# Altium schematic symbol library 1kW_BLDC_Controller.SCHLIB: 79 symbols
Pins are listed as number, name and electrical type; pins without a type are passive.

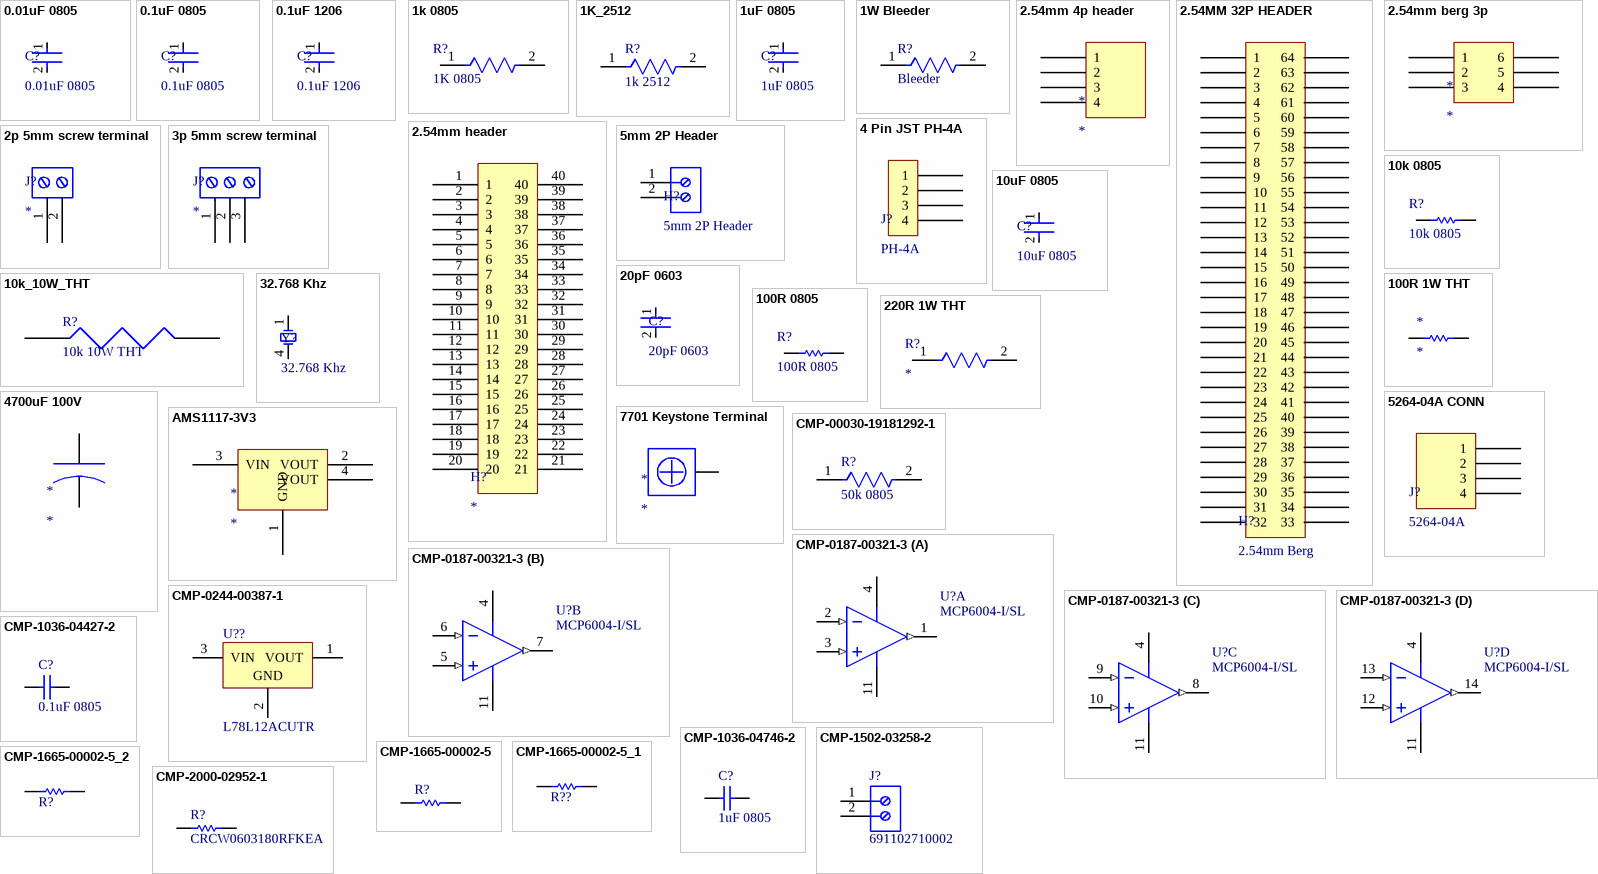
[diagram p0: symbols 0.01uF 0805 to CMP-2000-02952-1]

## 0.01uF 0805
designator C?
10nF/0.01uF 50V Capacitor ±10% Tolerance 0805B103K500CT – 0805 Package; Product URL: https://sharvielectronics.com/product/10nf-0-01uf-50v-capacitor-%c2%b110-tolerance-0805b103k500ct-0805-package/; Price per piece: 2.45; Datasheet: https://drive.google.com/file/d/18RHnvRuuuVekgJyOA4l8O3UUaSpuKbHR/view?usp=sharing
footprint R0805 (0805 Package)
footprint R0805 (0805 Package)
pins: 1, 2

## 0.1uF 0805
designator C?
0.1uF/100nF 100V Capacitor ±10% Tolerance CC0805KKX7R0BB104 – 0805 Package; Product URL: https://sharvielectronics.com/product/0-1uf-100nf-100v-capacitor-%c2%b110-tolerance-cc0805kkx7r0bb104-0805-package/; Price per piece: 4.76; Datasheet: https://drive.google.com/file/d/1wr2K_YaGqgMtACeU2pC6RWLSxDMrIPxr/view?usp=sharing
footprint R0805 (0805 Package)
pins: 1, 2

## 0.1uF 1206
designator C?
0.1uF/100nF 50V Capacitor ±10% Tolerance CC1206KRX7R9BB104 – 1206 Package; Price per piece: 2.22; Product URL: https://sharvielectronics.com/product/0-1uf-100nf-50v-capacitor-%c2%b110-tolerance-cc1206krx7r9bb104-1206-package/; Datasheet: https://sharvielectronics.com/wp-content/uploads/2020/09/Yageo-smd-Capacitor.pdf
footprint C2106 (2106 Package)
footprint C1206 (1206 Package)
pins: 1, 2

## 1k 0805
designator R?, comment 1K 0805
1K Ohm 1/8 Watt Resistor 1% Tolerance 0805S8F1001T5E – 0805 Package; Price per piece: 0.82; Product URL: https://sharvielectronics.com/product/1k-ohm-1-8-watt-resistor-1-tolerance-0805s8f1001t5e-0805-package/; Datasheet: https://drive.google.com/file/d/1rtx85iFJaMrDbsv7PAzG9bTFItPmAE38/view?usp=sharing
footprint R0805 (0805 Package)
pins: 1, 2

## 1K_2512
designator R?, comment 1k 2512
1K Ohm 1W Resistor 2512 Package; Manufacturer: Vishay Dale; Manufacturer Part Number: CRCW25121R00FKEG; Resistance: 1R; Tolerance: 1%; Voltage Rating: 500V; Temperature Coefficient: 100ppm/°C; Prie per piece: 3.25; Number of Terminations: 2; Packaging: Tape and Reel; Features: Automotive AEC-Q200; Military Standard: Not; Power Rating: 1W; Max Operating Temperature: 155°C; Number of Pins: 2; Radiation Hardening: No; Mount: Surface Mount; Height: 0.6mm; Max Power Dissipation: 1W; Case Code (Metric): 6432; Termination: SMD/SMT; REACH SVHC: No SVHC; Case/Package: 2512; Weight: 0.001429oz; Package Quantity: 2000; Composition: Thick Film; Voltage Rating (DC): 500V; Width: 0.124inch; Length: 6.3mm; Lead Free: Lead Free; Min Operating Temperature: -55°C; Contact Plating: Tin; Case Code (Imperial): 2512; Depth: 3.15mm; Price per piece: 3.25; ComponentLink1Description: Product URL; ComponentLink1URL: https://sharvielectronics.com/product/1k-ohm-1w-resistor-2512-package-pack-of-5/; ComponentLink2Description: Datasheet; ComponentLink2URL: *; Product URL: https://sharvielectronics.com/product/1k-ohm-1w-resistor-2512-package-pack-of-5/; Datasheet: *
footprint FP-CRCW2512-e3-IPC_C
footprint FP-CRCW2512-e3-IPC_B
footprint FP-CRCW2512-e3-MFG
footprint FP-CRCW2512-e3-IPC_A
footprint R2512 (2512 Package)
pins: 1, 2

## 1uF 0805
designator C?
1uF/1000nF 50V Capacitor ±10% Tolerance CC0805KKX7R9BB105 – 0805 Package; Price per piece: 2.16; Product URL: https://sharvielectronics.com/product/1uf-1000nf-50v-capacitor-%c2%b110-tolerance-cc0805kkx7r9bb105-0805-package/; Datasheet: https://drive.google.com/file/d/1wr2K_YaGqgMtACeU2pC6RWLSxDMrIPxr/view?usp=sharing
footprint R0805 (0805 Package)
pins: 1, 2

## 1W Bleeder
designator R?, comment Bleeder
footprint 1W Modified THT
pins: 1, 2

## 2.54mm 4p header
designator *
Price per piece: *; Product URL: *; Datasheet: *
footprint 2.54mm 4p header
pins: 1, 2, 3, 4

## 2.54MM 32P HEADER
designator H?, comment 2.54mm Berg
2×40 Pin Straight Female Berg Strip- 2.54mm Pitch; Price per piece: 13; Product URL: https://sharvielectronics.com/product/2x40-pin-straight-female-berg-strip-2-54mm-pitch/; Datasheet: https://sharvielectronics.com/wp-content/uploads/2020/02/Pin-Straight-Female-Berg-Strip-2.54mm-Pitch.pdf
footprint 2.5mm 32p header
pins: 1, 2, 3, 4, 5, 6, 7, 8, 9, 10, 11, 12, 13, 14, 15, 16, 17, 18, 19, 20, 21, 22, 23, 24, 25, 26, 27, 28, 29, 30, 31, 32, 33, 34, 35, 36, 37, 38, 39, 40, 41, 42, 43, 44, 45, 46, 47, 48, 49, 50, 51, 52, 53, 54, 55, 56, 57, 58, 59, 60, 61, 62, 63, 64

## 2.54mm berg 3p
designator *
Price per piece: 12.25; Product URL: https://sharvielectronics.com/product/40x2-pin-male-berg-strip-break-away-header-right-angle-2-54mm-pitch/; Datasheet: https://www.mouser.com/catalog/additional/Amphenol_bwb_bergstik.pdf
footprint 2.54mm 3p header
pins: 1, 2, 3, 4, 5, 6

## 2.54mm header
designator H?
footprint 2.54mm 20p header
pins: 1, 2, 3, 4, 5, 6, 7, 8, 9, 10, 11, 12, 13, 14, 15, 16, 17, 18, 19, 20, 21, 22, 23, 24, 25, 26, 27, 28, 29, 30, 31, 32, 33, 34, 35, 36, 37, 38, 39, 40

## 2p 5mm screw terminal
designator J?
XY127- 2 Pin Screw Terminal- 5mm Pitch; Product URL: https://sharvielectronics.com/product/2-pin-screw-terminal-block-red-5mm-pitch/; Price per piece: 6.32; Datasheet: https://sharvielectronics.com/wp-content/uploads/2023/03/XY127.pdf
footprint TERMINAL_5MM_3P (5mm screw terminal)
footprint TERMINAL_5MM_2P (5mm screw terminal)
pins: 1, 2

## 3p 5mm screw terminal
designator J?
XY127- 3 Pin Screw Terminal- 5mm Pitch; Product URL: https://sharvielectronics.com/product/xy127-3-pin-screw-terminal-5mm-pitch/; Price per piece: 8.35; Datasheet: https://sharvielectronics.com/wp-content/uploads/2023/03/XY127.pdf
footprint TERMINAL_5MM_3P (5mm screw terminal)
pins: 1, 2, 3

## 4 Pin JST PH-4A
designator J?, comment PH-4A
4 Pin JST PH-4A Straight Male Connector – 2mm Pitch; Price per piece: 3.55; Product URL: https://sharvielectronics.com/product/4-pin-jst-ph-4a-straight-male-connector-2mm-pitch/; Datasheet: https://drive.google.com/file/d/1xtnH8dmm313gQd5L_EWqAXCnKwT4okMA/view?usp=sharing
footprint JST PH-4A
pins: 1, 2, 3, 4

## 5mm 2P Header
designator H?
2 Pin Screw Terminal Block RED – 5mm Pitch; Price per piece: 6.32; Product URL: https://sharvielectronics.com/product/2-pin-screw-terminal-block-red-5mm-pitch/; Datasheet: *
footprint TERMINAL_5MM_2P (5mm screw terminal)
pins: 1, 2

## 10k 0805
designator R?
10K Ohm 1/8 Watt Resistor 1% Tolerance RC0805FR-0710KL – 0805 Package; Price per piece: 0.82; Product URL: https://sharvielectronics.com/product/10k-ohm-1-8-watt-resistor-1-tolerance-rc0805fr-0710kl-0805-package/; Datasheet: https://drive.google.com/file/d/1pkLQT_RQ1i35oFQcGREpZr7Oy3Ppi-ZT/view?usp=sharing
footprint R0805 (0805 Package)
pins: 1, 2

## 10k_10W_THT
designator R?, comment 10k 10W THT
10K ohm 10W Fusible Cement Resistor; Price per piece: 20; Product URL: https://sharvielectronics.com/product/10k-ohm-10w-fusible-cement-resistor/; Datasheet: *
footprint R10W
pins: 1, 2

## 10uF 0805
designator C?
10uF/1000nF 50V Capacitor ±10% Tolerance CC0805KKX5R9BB106 – 0805 Package; Product URL: https://sharvielectronics.com/product/10uf-1000nf-50v-capacitor-%c2%b110-tolerance-cc0805kkx5r9bb106-0805-package/; Price per piece: 2.85; Datasheet: https://drive.google.com/file/d/1wr2K_YaGqgMtACeU2pC6RWLSxDMrIPxr/view?usp=sharing
footprint R0805 (0805 Package)
pins: 1, 2

## 20pF 0603
designator C?
20pF/0.02nF 50V Capacitor 5% Tolerance 0603N200J500CT – 0603 Package; Price per piece: 1.85; Product URL: https://sharvielectronics.com/product/20pf-0-02nf-50v-capacitor-5-tolerance-0603n200j500ct-0603-package/; Datasheet: https://drive.google.com/file/d/1bI-gbXJF8P1uj18nKMNUbX5Mw9ANXnPN/view?usp=sharing
footprint C0603 (0603 Capacitor Package)
pins: 1, 2

## 32.768 Khz
designator Y?
YSX306GA 32.768 Khz SMD Crystal; Price per piece: 28.69; Product URL: https://sharvielectronics.com/product/ysx306ga-32-768-khz-smd-crystal/; Datasheet: https://drive.google.com/file/d/15lCHrTLPlPWCqCXLaHcSvA8fcw05laDJ/view?usp=sharing
footprint XTAL
pins: 1, 2 NC hidden, 3 NC hidden, 4

## 100R 1W THT
designator *
Price per piece: 2.14; Product URL: https://sharvielectronics.com/product/100-ohm-1-watt-resistor-5-tolerance/
footprint 1W THT
pins: 1, 2

## 100R 0805
designator R?
100 ohm 1/4W Resistor 0805 Package; Price per piece: 0.82; Product URL: https://sharvielectronics.com/product/100-ohm-1-4w-resistor-0805-package/; Datasheet: *
footprint R0805 (0805 Package)
pins: 1, 2

## 220R 1W THT
designator R?
220 Ohm 1 Watt Resistor 5% Tolerance; Price per piece: 1.46; Product URL: https://sharvielectronics.com/product/220-ohm-1-watt-resistor-5-tolerance/; Datasheet: *
footprint R1WTHT (1Watt THT Resistor)
pins: 1, 2

## 4700uF 100V
designator *
footprint 4700uF 100V
pins: 1 + (power), 2 GND (power)

## 5264-04A CONN
designator J?, comment 5264-04A
5264-04A – 4Pin Wire to Board Electrical Straight Connector – 2.5mm Pitch; Price per piece: 3.6; Datasheet: https://drive.google.com/file/d/1t3jPdwR-D_EtvdfTJbBkOuHHBupxPokz/view; Product URL: https://sharvielectronics.com/product/5264-04a-4pin-wire-to-board-electrical-straight-connector-2-5mm-pitch/
pins: 1, 2, 3, 4

## 7701 Keystone Terminal
designator *
footprint 7701 Terminal
pins: 1

## AMS1117-3V3
designator *
Price per piece: 6.25; Product URL: https://sharvielectronics.com/product/ams1117-3-3v-voltage-regulator-ic-smd-sot-223-package/; Datasheet: https://sharvielectronics.com/wp-content/uploads/2020/09/AMS1117-3.3V_DS.pdf
footprint AMS1117-3V3
pins: 1 GND, 2 VOUT, 3 VIN, 4 VOUT

## CMP-00030-19181292-1
designator R?, comment 50k 0805
PLT0805Z5002AST5 Res Thin Film 0805 50K Ohm 0.05% 0.25W(1/4W) ±5ppm/C Pad SMD T/R; NexarPartId: 19181292; Manufacturer: Vishay Dale Thin Film; Temperature Coefficient: 5ppm/°C; Resistance: 50kΩ; Voltage Rating: 100V; Power Rating: 250mW; Width: 1.27mm; Case Code (Imperial): 0805; Case Code (Metric): 2012; Tolerance: 0.05%; Composition: Thin Film; Case/Package: 0805; Max Operating Temperature: 125°C; Schedule B: 8533210045, 8533210045; RoHS: Compliant; Length: 2.032mm; Height: 838.2µm; Min Operating Temperature: -55°C; Manufacturer Part Number: PLT0805Z5002AST5
footprint FP-PLT0805-MFG (Res Thin Film 0805 50K Ohm 0.05% 0.25W(1/4W) ±5ppm/C Pad SMD T/R)
footprint FP-PLT0805-IPC_A (Res Thin Film 0805 50K Ohm 0.05% 0.25W(1/4W) ±5ppm/C Pad SMD T/R)
footprint FP-PLT0805-IPC_B (Res Thin Film 0805 50K Ohm 0.05% 0.25W(1/4W) ±5ppm/C Pad SMD T/R)
footprint FP-PLT0805-IPC_C (Res Thin Film 0805 50K Ohm 0.05% 0.25W(1/4W) ±5ppm/C Pad SMD T/R)
pins: 1, 2

## CMP-0187-00321-3
designator U?, comment MCP6004-I/SL
MCP6004 1MHz Rail-to-Rail Operational Amplifier – SOIC-14 Package; Manufacturer: Microchip; Number of Channels: 4; Amplifier Type: GENERAL PURPOSE; Common Mode Rejection Ratio: 60dB; Voltage Gain: 112dB; Min Supply Voltage: 1.8V; Slew Rate-Nom: 0.6V/µs; Supply Current: 100uA; Input Offset Voltage-Max: 4.5mV; Power Supply Rejection Ratio (PSRR): 86dB; Output Current: 23mA; Operating Supply Voltage: 5.5V; Input Bias Current: 1pA; Max Supply Voltage: 6V; RoHS Compliant: Yes; Technology: CMOS; Radiation Hardening: No; Bandwidth: 1MHz; Number of Elements: 4; REACH SVHC: No SVHC; Number of Amplifiers: 4; Lead Free: Lead Free; Contact Plating: Tin; Max Operating Temperature: 85°C; Packaging: Rail/Tube; Number of Pins: 14; Case/Package: SOIC; Width: 3.9mm; Length: 8.65mm; Unity Gain Bandwidth Product: 1MHz; Gain Bandwidth Product: 1MHz; Input Offset Voltage (Vos): 4.5mV; Package Quantity: 57; Number of Circuits: 4; Min Operating Temperature: -40°C; Nominal Supply Current: 100uA; Height: 1.25mm; Slew Rate: 0.6V/µs; Mount: Surface Mount; Manufacturer Part Number: MCP6004-I/SL
footprint SOIC-SL14_M (SOIC, 14-Leads, Body 8.7x3.9mm, Pitch 1.27mm, IPC Low Density)
footprint SOIC-SL14_N (SOIC, 14-Leads, Body 8.7x3.9mm, Pitch 1.27mm, IPC Medium Density)
simulation model MCP6001
footprint SOIC-SL14_L (SOIC, 14-Leads, Body 8.7x3.9mm, Pitch 1.27mm, IPC High Density)
pins on every part: 4 VDD (power), 11 VSS (power)
part A pins: 1 VOUTA (out), 2 VINA- (in), 3 VINA+ (in)
part B pins: 5 VINB+ (in), 6 VINB- (in), 7 VOUTB (out)
part C pins: 8 VOUTC (out), 9 VINC- (in), 10 VINC+ (in)
part D pins: 12 VIND+ (in), 13 VIND- (in), 14 VOUTD (out)

## CMP-0244-00387-1
designator U??, comment L78L12ACUTR
Positive Voltage Regulator, 12V, 4-Pin SOT-89, Tape and Reel; Manufacturer: STMicroelectronics; DatasheetVersion: 1/02/2011; PackageDescription: 3-Pin SOT-89 Package 1.5 mm Pitch, 4.1 mm Lead Span; ComponentLink2Description: Datasheet; ComponentLink1Description: Manufacturer URL; PackageVersion: 2011; PackageReference: SOT-89; ComponentLink1URL: http://www.st.com; ComponentLink2URL: http://www.st.com/internet/com/TECHNICAL_RESOURCES/TECHNICAL_LITERATURE/DATASHEET/CD00000446.pdf; Manufacturer Part Number: L78L12ACUTR
footprint SOT-89_N (SOT89, 3-Leads, Body 4.5x2.4 mm, Pitch 1.5mm, Lead Span 4.1mm, IPC Medium Density)
footprint SOT-89_M (SOT89, 3-Leads, Body 4.5x2.4 mm, Pitch 1.5mm, Lead Span 4.1mm, IPC Low Density)
footprint SOT-89_L (SOT89, 3-Leads, Body 4.5x2.4 mm, Pitch 1.5mm, Lead Span 4.1mm, IPC High Density)
pins: 1 VOUT (power), 2 GND (power), 3 VIN (power)

## CMP-1036-04427-2
designator C?, comment 0.1uF 0805
Manufacturer: AVX Interconnect / Elco; Part Number: 08051C104JAT2A; Manufacturer: Kyocera AVX; Manufacturer: KEMET; Manufacturer Part Number: C0805C104J1RAC; Manufacturer Part Number: C0805C104J1RACTU; Manufacturer Part Number: 08051C104JAT2A
footprint CAPC2013X94X50ML20T25 (Chip Capacitor, 2-Leads, Body 2.01x1.25mm, IPC Low Density)
footprint CAPC2013X94X50NL20T25 (Chip Capacitor, 2-Leads, Body 2.01x1.25mm, IPC Medium Density)
footprint CAPC2013X94X50LL20T25 (Chip Capacitor, 2-Leads, Body 2.01x1.25mm, IPC High Density)
pins: 1, 2
1 alternate drawing of the same symbol

## CMP-1036-04746-2
designator C?, comment 1uF 0805
Manufacturer: Kemet; Part Number: C0805C105K4PACTU; Manufacturer: TDK; Manufacturer Part Number: C2012X5R1C105K/1.25; Manufacturer: Murata; Manufacturer Part Number: GRM21BR71C105KA01L; Manufacturer Part Number: C0805C105K4RAC; Manufacturer: Kyocera AVX; Manufacturer Part Number: 0805YD105KAT2A; Manufacturer Part Number: C0805C105K4PAC; Manufacturer: Vishay Vitramon; Manufacturer Part Number: VJ0805Y105KXJTW1BC; Manufacturer Part Number: C2012X5R1C105K/0.85; Manufacturer: Yageo; Manufacturer Part Number: CC0805KKX5R7BB105; Manufacturer: Vishay; Manufacturer Part Number: VJ0805Y105KXJRW1BC; Manufacturer Part Number: 0805YD105KAT4A; Manufacturer Part Number: C0805C105K4RACTM; Manufacturer Part Number: 0805YC105KAT2A; Manufacturer Part Number: C0805C105K4RACTU; Manufacturer Part Number: C2012X7R1C105K/0.85; Manufacturer Part Number: CC0805KKX7R7BB105; Manufacturer Part Number: C2012X7R1C105K/1.25; Manufacturer Part Number: 0805YC105KAT4A; Manufacturer: KEMET; Manufacturer Part Number: C0805C105K4PACTU
footprint CAPC2013X145X50LL20T25 (Chip Capacitor, 2-Leads, Body 2.00x1.25mm, IPC High Density)
footprint CAPC2013X145X50NL20T25 (Chip Capacitor, 2-Leads, Body 2.00x1.25mm, IPC Medium Density)
footprint CAPC2013X145X50ML20T25 (Chip Capacitor, 2-Leads, Body 2.00x1.25mm, IPC Low Density)
pins: 1, 2
1 alternate drawing of the same symbol

## CMP-1502-03258-2
designator J?, comment 691102710002
NexarPartId: 8917706; Manufacturer: Wurth Electronics; Number of Levels: 1; Number of Positions Per Level: 2; Current: 15A; Voltage: 300V; Pitch: 5.0038mm; Plating: Steel; Stripping Length: -6mm; Wire Gauge (Min): 14AWG; Wire Gauge (Max): 22AWG; Length: 7.5mm; Contact Material: Brass; Contact Plating: Tin; Packaging: Box; Number of Pins: 2; Voltage Rating: 300V; Termination: Screw; Number of Contacts: 2; Color: Blue; Current Rating: 15A; Mount: Through Hole; Max Operating Temperature: 105°C; Min Operating Temperature: -40°C; REACH SVHC: Unknown; Height: 13.4mm; Width: 11.2mm; Housing Material: Nylon; RoHS: Compliant; Wire/Cable Gauge: 22AWG; Lead Pitch: 5mm; Manufacturer Part Number: 691102710002
footprint 691102710002 (Conn Terminal Block 2 POS 5mm Solder ST Thru-Hole 15A Box)
pins: 1, 2

## CMP-1665-00002-5
designator R?, comment 0R 0805  (value not drawn)
Chip Resistor, 0 Ohm, +/- 1%, 0.125 W, -55 to 155 degC, 0805 (2012 Metric), RoHS, Tape and Reel; PartNumber: ERJ-6GEY0R00V; Manufacturer: Panasonic; Tolerance: 5%; Resistance: 0 Ohm; REACH SVHC: No SVHC; Min Operating Temperature: -55 degC; Case/Package: 0805; Packaging: Tape and Reel; Package Quantity: 5000; ComponentLink1Description: Manufacturer URL; PackageDescription: 2-Pin Surface Mount Device, Body 2 x 1.25 mm; Mounting Technology: Surface Mount; Max Operating Temperature: 155 degC; Width: 1.25 mm; RoHSCompliant: True; Height: 0.6 mm; ComponentLink1URL: http://www.panasonic.com/; ComponentLink2URL: http://industrial.panasonic.com/cdbs/www-data/pdf/RDA0000/AOA0000C84.pdf; Case Code (Imperial): 0805; DatasheetVersion: 03/2015; Length: 2 mm; Case Code (Metric): 2012; ComponentLink2Description: Datasheet; Radiation Hardening: No; Manufacturer Part Number: ERJ-6GEY0R00V
footprint RESC2013X70X40NL20T20 (Chip Resistor, 2-Leads, Body 2.00x1.25mm, IPC Medium Density)
footprint RESC2013X70X40LL20T20 (Chip Resistor, 2-Leads, Body 2.00x1.25mm, IPC High Density)
footprint RESC2013X70X40ML20T20 (Chip Resistor, 2-Leads, Body 2.00x1.25mm, IPC Low Density)
pins: 1, 2

## CMP-1665-00002-5_1
designator R??, comment 0R 0805  (value not drawn)
Chip Resistor, 0 Ohm, +/- 1%, 0.125 W, -55 to 155 degC, 0805 (2012 Metric), RoHS, Tape and Reel; PartNumber: ERJ-6GEY0R00V; Manufacturer: Panasonic; Tolerance: 5%; Resistance: 0 Ohm; REACH SVHC: No SVHC; Min Operating Temperature: -55 degC; Case/Package: 0805; Packaging: Tape and Reel; Package Quantity: 5000; ComponentLink1Description: Manufacturer URL; PackageDescription: 2-Pin Surface Mount Device, Body 2 x 1.25 mm; Mounting Technology: Surface Mount; Max Operating Temperature: 155 degC; Width: 1.25 mm; RoHSCompliant: True; Height: 0.6 mm; ComponentLink1URL: http://www.panasonic.com/; ComponentLink2URL: http://industrial.panasonic.com/cdbs/www-data/pdf/RDA0000/AOA0000C84.pdf; Case Code (Imperial): 0805; DatasheetVersion: 03/2015; Length: 2 mm; Case Code (Metric): 2012; ComponentLink2Description: Datasheet; Radiation Hardening: No; Manufacturer Part Number: ERJ-6GEY0R00V
footprint RESC2013X70X40NL20T20 (Chip Resistor, 2-Leads, Body 2.00x1.25mm, IPC Medium Density)
footprint RESC2013X70X40LL20T20 (Chip Resistor, 2-Leads, Body 2.00x1.25mm, IPC High Density)
footprint RESC2013X70X40ML20T20 (Chip Resistor, 2-Leads, Body 2.00x1.25mm, IPC Low Density)
pins: 1, 2

## CMP-1665-00002-5_2
designator R?, comment 0R 0805  (value not drawn)
Chip Resistor, 0 Ohm, +/- 1%, 0.125 W, -55 to 155 degC, 0805 (2012 Metric), RoHS, Tape and Reel; PartNumber: ERJ-6GEY0R00V; Manufacturer: Panasonic; Tolerance: 5%; Resistance: 0 Ohm; REACH SVHC: No SVHC; Min Operating Temperature: -55 degC; Case/Package: 0805; Packaging: Tape and Reel; Package Quantity: 5000; ComponentLink1Description: Manufacturer URL; PackageDescription: 2-Pin Surface Mount Device, Body 2 x 1.25 mm; Mounting Technology: Surface Mount; Max Operating Temperature: 155 degC; Width: 1.25 mm; RoHSCompliant: True; Height: 0.6 mm; ComponentLink1URL: http://www.panasonic.com/; ComponentLink2URL: http://industrial.panasonic.com/cdbs/www-data/pdf/RDA0000/AOA0000C84.pdf; Case Code (Imperial): 0805; DatasheetVersion: 03/2015; Length: 2 mm; Case Code (Metric): 2012; ComponentLink2Description: Datasheet; Radiation Hardening: No; Manufacturer Part Number: ERJ-6GEY0R00V
footprint RESC2013X70X40NL20T20 (Chip Resistor, 2-Leads, Body 2.00x1.25mm, IPC Medium Density)
footprint RESC2013X70X40LL20T20 (Chip Resistor, 2-Leads, Body 2.00x1.25mm, IPC High Density)
footprint RESC2013X70X40ML20T20 (Chip Resistor, 2-Leads, Body 2.00x1.25mm, IPC Low Density)
pins: 1, 2

## CMP-2000-02952-1
designator R?, comment CRCW0603180RFKEA
Manufacturer: Vishay Dale; Manufacturer: Vishay; Part Number: CRCW0603180RFKEA; Manufacturer Part Number: CRCW0603180RFKEA
footprint RESC1609X50X30ML10T20 (Chip Resistor, 2-Leads, Body 1.55x0.85mm, IPC Low Density)
footprint RESC1609X50X30LL10T20 (Chip Resistor, 2-Leads, Body 1.55x0.85mm, IPC High Density)
footprint RESC1609X50X30NL10T20 (Chip Resistor, 2-Leads, Body 1.55x0.85mm, IPC Medium Density)
pins: 1, 2
1 alternate drawing of the same symbol

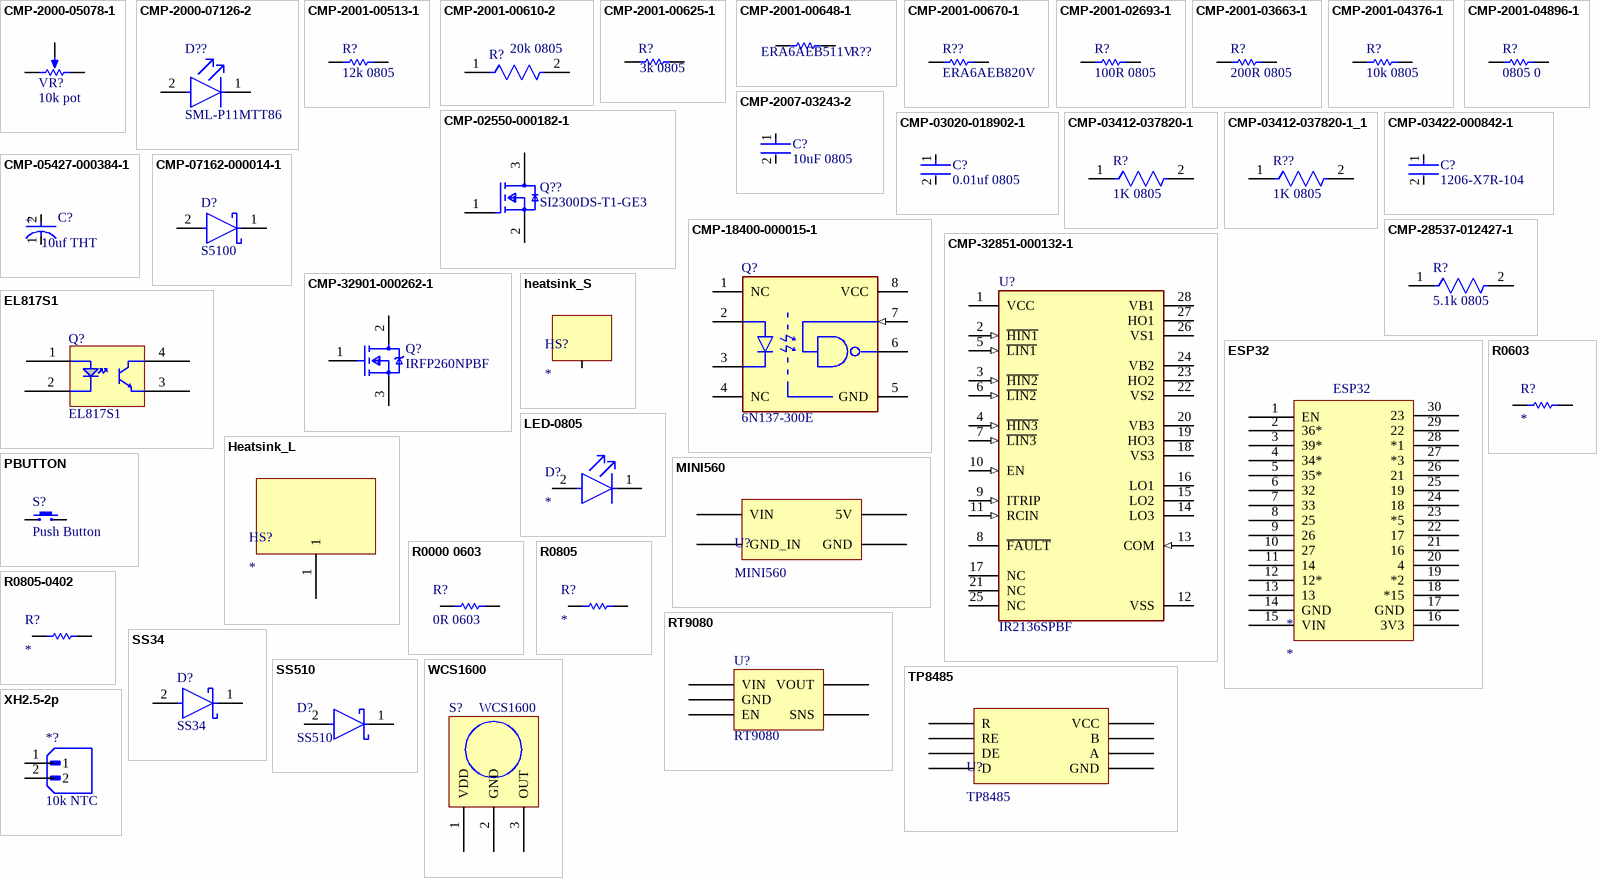
[diagram p1: symbols CMP-2000-05078-1 to XH2.5-2p]

## CMP-2000-05078-1
designator VR?, comment 10k pot
Square Trimming Potentiometer, 10 KOhm, 500 mW, -55 to 125 degC, 3-Pin THD, RoHS, Tube; Manufacturer Part Number: 3299W-1-103LF; Brand: Bourns; Power Rating: 500mW(1/2W); Unit Weight: 0.035000oz; Qualification: Commercial; Element Type: Cermet; Resistance: 10kOhms; Tolerance: 10%; Temperature Coefficient: 100PPM/C; Voltage Rating: 300V; Adjustment: TopCrossed; Product: Multiturn; Datasheet Version: Sep-04; Datasheet URL: https://datasheet.ciiva.com/19482/769696-19482212.pdf; RoHS: True; Tradename: Trimpot; Product Type: SquareTrimmingPotentiometer; Mounting: PanelMount; Packaging: Tube; Package Reference: 3299W; Operating Temperature Range: -55Cto+125C; Length: 10.03mm; Termination Style: Pin; Manufacturer: Bourns; Manufacturer URL: http://www.bourns.com/; Product Category: TrimmerResistors-ThroughHole; Width: 9.53mm; Taper: Linear; Package Description: 3-Pin Surface Mount Device, Body 9.53 x 6.1 mm, Pitch 2.54 mm; Type: Trimmers; Series: 3299
footprint BOUR-3299W-3_V (TH, 3-Leads, Body 9.53x6.4mm, Pitch 2.54mm)
pins: 1 CCW, 2 WIPER, 3 CW

## CMP-2000-07126-2
designator D??, comment SML-P11MTT86
LED YELLOW/GREEN CLEAR 1006 SMD; Manufacturer: Rohm; Forward Current: 20mA; Lens Color: Colorless; Power Rating: 54mW; Lens Style: Diffused; Wavelength: 569nm; Viewing Angle: 150°; Number of LEDs: 1; Test Current: 1mA; Luminous Intensity: 2.1mcd; Illumination Color: Green; Forward Voltage: 1.9V; REACH SVHC: No SVHC; Mount: Surface Mount; Series: PicoLED™; Case Code (Imperial): 0402; Min Operating Temperature: -40°C; Max Operating Temperature: 85°C; Number of Pins: 2; Package Quantity: 1; Height: 0.25mm; Lens Transparency: Clear; Case Code (Metric): 1005; Packaging: Tape and Reel; Width: 0.6mm; Radiation Hardening: No; Case/Package: 0402; Lead Free: Lead Free; Color: Green; RoHS Compliant: Yes; Length: 1mm; Dominant Wavelength: 569nm; Manufacturer Part Number: SML-P11MTT86
footprint FP-SML-P11MTT86-MFG
pins: 1 C, 2 A

## CMP-2001-00513-1
designator R?, comment 12k 0805
Manufacturer: Panasonic; Part Number: ERJ6ENF1202V; Manufacturer Part Number: ERJ-6ENF1202V
footprint RESC2013X70X40ML20T20 (Chip Resistor, 2-Leads, Body 2.00x1.25mm, IPC Low Density)
footprint RESC2013X70X40NL20T20 (Chip Resistor, 2-Leads, Body 2.00x1.25mm, IPC Medium Density)
footprint RESC2013X70X40LL20T20 (Chip Resistor, 2-Leads, Body 2.00x1.25mm, IPC High Density)
pins: 1, 2
1 alternate drawing of the same symbol

## CMP-2001-00610-2
designator R?, comment 20k 0805
RES 20K OHM 0.1% 1/8W 0805; Manufacturer: Panasonic; Manufacturer Part Number: ERA6AEB203V; Manufacturer Part Number: ERA-6AEB203V; Power Rating: 125mW; Voltage Rating (DC): 100V; Resistance: 20kR; Temperature Coefficient: 25ppm/°C; REACH SVHC: No SVHC; Features: Automotive AEC-Q200; Tolerance: 0.1%; Size Code: 0805; Max Power Dissipation: 125mW; Termination: SMD/SMT; Package Quantity: 1; Resistor Type: Thin Film; Number of Pins: 2; Width: 1.25mm; Technology: THIN FILM; Min Operating Temperature: -55°C; Length: 2mm; Mount: Surface Mount; Height: 0.5mm; Resistance Tolerance: 0.1%; Military Standard: Not; Case Code (Imperial): 0805; Contact Plating: Tin; Case Code (Metric): 2012; Number of Terminations: 2; RoHS Compliant: Yes; Voltage Rating: 100V; Lead Free: Lead Free; Depth: 1.25mm; Construction: Rectangular; Case/Package: 0805; Radiation Hardening: No; Series: ERA-6A; Max Operating Temperature: 155°C; Packaging: Tape and Reel
footprint FP-ERA6A-MFG
footprint FP-ERA6A-IPC_C
footprint FP-ERA6A-IPC_B
footprint FP-ERA6A-IPC_A
footprint R0805 (0805 Package)
pins: 1, 2

## CMP-2001-00625-1
designator R?, comment 3k 0805
Part Number: ERA6AEB302V; Manufacturer: Panasonic; Manufacturer Part Number: ERA-6AEB302V
footprint RESC2013X60X40LL20T25 (Chip Resistor, 2-Leads, Body 2.00x1.25mm, IPC High Density)
footprint RESC2013X60X40ML20T25 (Chip Resistor, 2-Leads, Body 2.00x1.25mm, IPC Low Density)
footprint RESC2013X60X40NL20T25 (Chip Resistor, 2-Leads, Body 2.00x1.25mm, IPC Medium Density)
pins: 1, 2
1 alternate drawing of the same symbol

## CMP-2001-00648-1
designator R??, comment ERA6AEB511V
Manufacturer: Panasonic; Manufacturer Part Number: ERA-6AEB511V; Part Number: ERA6AEB511V
footprint RESC2013X60X40LL20T25 (Chip Resistor, 2-Leads, Body 2.00x1.25mm, IPC High Density)
footprint RESC2013X60X40NL20T25 (Chip Resistor, 2-Leads, Body 2.00x1.25mm, IPC Medium Density)
footprint RESC2013X60X40ML20T25 (Chip Resistor, 2-Leads, Body 2.00x1.25mm, IPC Low Density)
pins: 1, 2
1 alternate drawing of the same symbol

## CMP-2001-00670-1
designator R??, comment ERA6AEB820V
Manufacturer: Panasonic; Manufacturer Part Number: ERA-6AEB820V; Part Number: ERA6AEB820V
footprint RESC2013X60X40NL20T25 (Chip Resistor, 2-Leads, Body 2.00x1.25mm, IPC Medium Density)
footprint RESC2013X60X40LL20T25 (Chip Resistor, 2-Leads, Body 2.00x1.25mm, IPC High Density)
footprint RESC2013X60X40ML20T25 (Chip Resistor, 2-Leads, Body 2.00x1.25mm, IPC Low Density)
pins: 1, 2
1 alternate drawing of the same symbol

## CMP-2001-02693-1
designator R?, comment 100R 0805
Manufacturer: Susumu; Part Number: RG2012P-101-B-T1; Manufacturer Part Number: RG2012P-101-B-T1
footprint RESC2013X50X40ML20T20 (Chip Resistor, 2-Leads, Body 2.00x1.25mm, IPC Low Density)
footprint RESC2013X50X40NL20T20 (Chip Resistor, 2-Leads, Body 2.00x1.25mm, IPC Medium Density)
footprint RESC2013X50X40LL20T20 (Chip Resistor, 2-Leads, Body 2.00x1.25mm, IPC High Density)
pins: 1, 2
1 alternate drawing of the same symbol

## CMP-2001-03663-1
designator R?, comment 200R 0805
Part Number: CRCW0805200RFKEA; Manufacturer: Vishay Dale; Manufacturer: Vishay; Manufacturer Part Number: CRCW0805200RFKEA
footprint RESC2013X50X30NL20T20 (Chip Resistor, 2-Leads, Body 2.00x1.25mm, IPC Medium Density)
footprint RESC2013X50X30LL20T20 (Chip Resistor, 2-Leads, Body 2.00x1.25mm, IPC High Density)
footprint RESC2013X50X30ML20T20 (Chip Resistor, 2-Leads, Body 2.00x1.25mm, IPC Low Density)
pins: 1, 2
1 alternate drawing of the same symbol

## CMP-2001-04376-1
designator R?, comment 10k 0805
Manufacturer: Panasonic; Part Number: ERJ-6ENF1002V; Manufacturer Part Number: ERJ-6ENF1002V
footprint RESC2013X70X40ML20T20 (Chip Resistor, 2-Leads, Body 2.00x1.25mm, IPC Low Density)
footprint RESC2013X70X40NL20T20 (Chip Resistor, 2-Leads, Body 2.00x1.25mm, IPC Medium Density)
footprint RESC2013X70X40LL20T20 (Chip Resistor, 2-Leads, Body 2.00x1.25mm, IPC High Density)
pins: 1, 2
1 alternate drawing of the same symbol

## CMP-2001-04896-1
designator R?, comment 0805 0
Manufacturer: Vishay Dale; Part Number: CRCW08050000Z0EA; Manufacturer: Vishay; Manufacturer Part Number: CRCW08050000Z0EA
footprint RESC2013X50X30LL20T20 (Chip Resistor, 2-Leads, Body 2.00x1.25mm, IPC High Density)
footprint RESC2013X50X30ML20T20 (Chip Resistor, 2-Leads, Body 2.00x1.25mm, IPC Low Density)
footprint RESC2013X50X30NL20T20 (Chip Resistor, 2-Leads, Body 2.00x1.25mm, IPC Medium Density)
pins: 1, 2
1 alternate drawing of the same symbol

## CMP-2007-03243-2
designator C?, comment 10uF 0805
CAP CER 10UF 10V X5R 0805; Manufacturer Part Number: C0805C106K8PACTU; Manufacturer: Kemet; 3DS Part Number: 220-00001; Tolerance: 10%; Temperature Coefficient: 15%; Material: Ceramic; Device Class L2: Capacitors; Device Class L1: Passive Components; ComponentLink2URL: https://content.kemet.com/datasheets/KEM_C1006_X5R_SMD.pdf; Height: 1.4mm; Lead Free: Yes; Digikey Description: CAP CER 10UF 10V X5R 0805; Octopart: https://octopart.com/c0805c106k8pactu-kemet-98697; Capacitance: 10uF; Value: 10uF; Temperature Range Low: -55°C; Temperature: -55°C to +85°C; Automotive: No; Mouser Description: CAP CER 10UF 10V X5R 0805; Ipc Land Pattern Name: CAPC200125X125; Temperature Range High: +85°C; Voltage: 10V; RoHS: TRUE; Device Class L3: Ceramic Capacitors; ComponentLink2Description: Datasheet; Voltage Rating: 10V; Package: C0805C-DG; Temperature Characteristic: X5R; Category: Cap; Manufacturer: KEMET
footprint FP-C0805C-DG-MFG
footprint FP-C0805C-DG-IPC_C
footprint FP-C0805C-DG-IPC_B
footprint FP-C0805C-DG-IPC_A
pins: 1, 2

## CMP-02550-000182-1
designator Q??, comment SI2300DS-T1-GE3
MOSFET N-CH 30V 3.6A SOT-23; Manufacturer: Vishay; Manufacturer: Vishay Siliconix; Threshold Vgs Max: 1.5V; Max Forward Diode Voltage: 1.2V; Max Junction Temp: +150°C; Reverse Recovery Time: 11ns; Depletion Mode: False; Standoff Height: 0.01mm; Gate To Source Voltage: 12V; Input Capacitace At Vds: 320pF @ 15V; Turn Off Delay Time: 15ns; Threshold Vgs Min: 0.6V; Transconductance: 13S; Gate Charge At Vgs: 6.5nC @ 10V; Power Dissipation: 1.1W; Drain To Source Resistance: 0.055Ω; Number Of N Channels: 1; Pulse Drain Current: 15A; Continuous Drain Current: 3.1A; Typ Forward Diode Voltage: 0.8V; Reverse Recovery Charge: 5nC; Rthja Max: 90°C/W; Turn On Delay Time: 5ns; Device Class L2: Transistors; Digikey Description: MOSFET N-CH 30V 3.6A SOT-23; Device Class L3: MOSFETs; ComponentLink2Description: Datasheet; Height: 1.12mm; Temperature Range Low: -55°C; Package: S-03946; Device Class L1: Discrete Semiconductors; RoHS: TRUE; ComponentLink2URL: http://www.vishay.com/docs/65701/si2300ds.pdf; Category: Trans; Drain To Source Breakdown Voltage: 30V; Automotive: No; Number Of Channels: 1; Mouser Description: MOSFET 30V 3.6A N-CH MOSFET; Temperature: -55°C to +150°C; Manufacturer Part Number: SI2300DS-T1-GE3; Octopart: https://octopart.com/si2300ds-t1-ge3-vishay-44451512; Drain To Source Voltage: 30V; Lead Free: Yes; Temperature Range High: +150°C; Ipc Land Pattern Name: SOT95P237X100-3
footprint FP-S-03946-MFG
footprint FP-S-03946-IPC_C
footprint FP-S-03946-IPC_B
footprint FP-S-03946-IPC_A
pins: 1 G, 2 S, 3 D

## CMP-03020-018902-1
designator C?, comment 0.01uf 0805
CAP CER 10000PF 100V X7R 0805; Manufacturer: KEMET; Manufacturer Part Number: C0805C103K1RACTU; Material: Ceramic; Capacitance: 10,000 pF; Value: 10,000 pF; Temperature Coefficient: 30ppm/°C; Tolerance: 0.1; Octopart: https://octopart.com/c0805c103k1ractu-kemet-97824; Ipc Land Pattern Name: CAPC200125X78; Temperature: -55°C to +125°C; Temperature Range High: +125°C; Temperature Range Low: -55°C; Category: Cap; Voltage Rating: 100 V; ComponentLink2Description: Datasheet; Device Class L3: Ceramic Capacitors; ComponentLink2URL: https://content.kemet.com/datasheets/KEM_C1003_C0G_SMD.pdf; Automotive: No; Temperature Characteristic: X7R; Digikey Description: CAP CER 10000PF 100V X7R 0805; Package: C0805C-DN; Height: 0.88mm; Device Class L2: Capacitors; Mouser Description: Cap Ceramic 0.01uF 100V X7R 10% SMD 0805 125°C Paper T/R; Device Class L1: Passive Components; Lead Free: Yes; RoHS: TRUE
footprint FP-C0805C-DN-MFG
footprint FP-C0805C-DN-IPC_C
footprint FP-C0805C-DN-IPC_B
footprint FP-C0805C-DN-IPC_A
pins: 1, 2

## CMP-03412-037820-1
designator R?, comment 1K 0805
RES SMD 1K OHM 5% 1/8W 0805; Manufacturer: Yageo; Manufacturer Part Number: RC0805JR-071KL; Voltage Rating: 150V; Resistance: 1kR; Max Power Dissipation: 125mW; Temperature Coefficient: 100ppm/°C; Size Code: 0805; Series: RC; Number of Terminations: 2; Tolerance: 5%; Features: Moisture Resistant; Termination: SMD/SMT; Min Operating Temperature: -55°C; Construction: Rectangular; Lead Free: Lead Free; Contact Plating: Tin; Radiation Hardening: No; Packaging: Tape and Reel; Length: 2mm; Resistor Type: Thick Film; Military Standard: Not; Case Code (Metric): 2012; Depth: 1.25mm; Case Code (Imperial): 0805; Power Rating: 125mW; Max Operating Temperature: 155°C; Resistance Tolerance: 5%; RoHS Compliant: Yes; Case/Package: 0805
footprint FP-RC0805-0_6-MFG
footprint FP-RC0805-0_6-IPC_C
footprint FP-RC0805-0_6-IPC_B
footprint FP-RC0805-0_6-IPC_A
pins: 1, 2

## CMP-03412-037820-1_1
designator R??, comment 1K 0805
RES SMD 1K OHM 5% 1/8W 0805; Manufacturer: Yageo; Manufacturer Part Number: RC0805JR-071KL; Voltage Rating: 150V; Resistance: 1kR; Max Power Dissipation: 125mW; Temperature Coefficient: 100ppm/°C; Size Code: 0805; Series: RC; Number of Terminations: 2; Tolerance: 5%; Features: Moisture Resistant; Termination: SMD/SMT; Min Operating Temperature: -55°C; Construction: Rectangular; Lead Free: Lead Free; Contact Plating: Tin; Radiation Hardening: No; Packaging: Tape and Reel; Length: 2mm; Resistor Type: Thick Film; Military Standard: Not; Case Code (Metric): 2012; Depth: 1.25mm; Case Code (Imperial): 0805; Power Rating: 125mW; Max Operating Temperature: 155°C; Resistance Tolerance: 5%; RoHS Compliant: Yes; Case/Package: 0805
footprint FP-RC0805-0_6-MFG
footprint FP-RC0805-0_6-IPC_C
footprint FP-RC0805-0_6-IPC_B
footprint FP-RC0805-0_6-IPC_A
pins: 1, 2

## CMP-03422-000842-1
designator C?, comment 1206-X7R-104
CAP CER 0.1UF 50V X7R 1206; Manufacturer: Yageo; Manufacturer Part Number: CC1206KRX7R9BB104; Automotive Grade: NA; Value: 100 nF; Tolerance: 0.1; Material: Ceramic; Temperature Coefficient: 15%; Temperature Characteristic: X7R; Device Class L1: Passive Components; Lead Free: Yes; Octopart: https://octopart.com/cc1206krx7r9bb104-yageo-39467816; Category: Cap; Temperature Range Low: -55°C; Device Class L3: Ceramic Capacitors; Voltage Rating: 50 V; Temperature Range High: +125°C; Device Class L2: Capacitors; RoHS: TRUE; Package: CC1206-1.25; Footprint Url: http://www.yageo.com/exep/pages/download/literatures/UPY-C_GEN_24.pdf; ComponentLink2Description: Datasheet; Temperature: -55°C to +125°C; Capacitance: 100 nF; Digikey Description: CAP CER 0.1UF 50V X7R 1206; Height: 1.45mm; Automotive: No; Mouser Description: Multilayer Ceramic Capacitors MLCC - SMD/SMT 100nF 50V X7R 10%; ComponentLink2URL: http://www.yageo.com/documents/recent/UPY-NP0X7R_HV_1KV-to-3KV_11.pdf
footprint FP-CC1206-1_25-MFG
footprint FP-CC1206-1_25-IPC_C
footprint FP-CC1206-1_25-IPC_B
footprint FP-CC1206-1_25-IPC_A
pins: 1, 2

## CMP-05427-000384-1
designator C?, comment 10uf THT
Aluminum Electrolytic Capacitors (Radial Lead Type) 10uF ±20% 350V; Manufacturer: Panasonic; Manufacturer Part Number: ECA-2VHG100; Lead/Base Style: Straight; Lead Diameter: 0.6mm; Ripple Current (AC): 82mA; Life (Hours): 2000Hour; Series: NHG; Packaging: Bulk; Case/Package: Radial; Contact Plating: Tin; Voltage Rating: 350V; Tolerance: 20%; Termination: Radial; Lead Pitch: 5mm; Max Operating Temperature: 105°C; REACH SVHC: No SVHC; Height - Seated (Max): 0.866inch; Radiation Hardening: No; Voltage Rating (DC): 350V; Diameter: 10mm; Length: 20mm; Mount: Through Hole; Package Quantity: 200; Min Operating Temperature: -25°C; Construction: RADIAL; Ripple Current: 82mA; Height: 20mm; Capacitance: 10uF; RoHS Compliant: Yes
footprint FP-RAD-TH-D_10_0_5-L_20_2-MFG
pins: 1 C, 2 A
text: +

## CMP-07162-000014-1
designator D?, comment S5100
Trench Schottky Rectifier, Very Low Leakage, 100V, 5A,; Manufacturer Part Number: NRVTSS5100ET3G; Manufacturer: ON Semiconductor; Max Junction Temp: +175°C; Standoff Height: 0.05mm; Peak Reverse Current: 2.6uA; Automotive Grade: Grade 0; Max Surge Forward Current: 50A; Capacitance: 54.5pF; Value: 54.5pF; Category: Diode; Forward Current: 5A; ComponentLink2Description: Datasheet; Reverse Voltage: 100V; Automotive: Yes; ComponentLink2URL: https://www.onsemi.com/pub/Collateral/NRVTSS5100E-D.PDF; Device Class L1: Discrete Semiconductors; Height: 2.47mm; Temperature Range Low: -55°C; Footprint Url: https://www.onsemi.com/pub/Collateral/403A-03.PDF; Lead Free: Yes; Temperature Range High: +175°C; RoHS: TRUE; Temperature: -55°C to +175°C; Device Class L3: Schottky Diodes; Package: 403A-03; Octopart: https://octopart.com/nrvtss5100et3g-on+semiconductor-54318003; Max Repetitive Reverse Voltage: 100V; Device Class L2: Diodes; Mouser Description: Trench Schottky Rectifier, Very Low Leakage, 100V, 5A,
footprint FP-403A-03-MFG
pins: 1 C, 2 A

## CMP-18400-000015-1
designator Q?, comment 6N137-300E
OPTOISO 3.75KV OPN COLL 8DIP GW; Manufacturer: Broadcom; Manufacturer: Broadcom Avago; Min Supply Voltage: 4.5V; Forward Voltage: 1.5V; Turn Off Delay Time: 50ns; Standoff Height: 0.505mm; Reverse Voltage: 5V; Isolation Voltage: 3750Vrms; Forward Current: 10mA; Turn On Delay Time: 48ns; Max Supply Voltage: 5.5V; Package: 0; Automotive: No; Lead Free: Yes; ComponentLink2Description: Datasheet; Temperature: -40°C to +85°C; Device Class L3: unset; Height: 4.455mm; Ambient Temperature Range Low: -40°C; Digikey Description: OPTOISO 3.75KV OPN COLL 8DIP GW; Temperature Range Low: -40°C; ComponentLink2URL: https://docs.broadcom.com/docs/AV02-0940EN; Mouser Description: High Speed Optocouplers 10 Mb/s 3750Vrms; Category: Trans; Ambient Temperature Range High: +85°C; RoHS: TRUE; Octopart: https://octopart.com/6n137-300e-broadcom-71125550; Manufacturer Part Number: 6N137-300E; Device Class L1: Optoelectronics; Device Class L2: Optocouplers; Temperature Range High: +85°C
footprint FP-6N137-300E-MFG
pins: 1 NC, 2 A, 3 C, 4 NC, 5 GND (power), 6 VO (oc), 7 VE (in), 8 VCC (power)

## CMP-28537-012427-1
designator R?, comment 5.1k 0805
Automotive Metal Thin Film Chip Resistor, 0805, 5.1kΩ, 0.1%, 5ppm/°C, 0.125W, 150V; Manufacturer: Susumu; Manufacturer Part Number: RG2012V-512-B-T5; Power Rating: 100mW; Resistance: 5.1kR; Voltage Rating: 100V; Max Power Dissipation: 125mW; Lead Free: Lead Free; Termination: SMD/SMT; Resistor Type: Thin Film; Case Code (Metric): 2012; Tolerance: 0.1%; Width: 1.25mm; Voltage Rating (DC): 150V; RoHS Compliant: Yes; Case/Package: 0805; Min Operating Temperature: -55°C; Packaging: Tape and Reel; Height: 0.02inch; Number of Terminations: 2; Max Operating Temperature: 155°C; Length: 0.079inch; Package Quantity: 5000; Features: Automotive AEC-Q200; Series: RG; Case Code (Imperial): 0805; Temperature Coefficient: 5ppm/°C
footprint FP-RG2012-IPC_A
footprint FP-RG2012-IPC_B
footprint FP-RG2012-IPC_C
footprint FP-RG2012-MFG
pins: 1, 2

## CMP-32851-000132-1
designator U?, comment IR2136SPBF
IC GATE DRVR HALF-BRIDGE 28SOIC; Manufacturer: Infineon; Fall Time: 75ns; Max Supply Voltage: 20V; On-State Resistance: 100R; Output Voltage: 620V; Number of Drivers: 6; Max Output Current: 350mA; Propagation Delay: 425ns; Channel Type: 3-Phase; Min Supply Voltage: 10V; Halogen Free: Halogen Free; Height: 0.093inch; REACH SVHC: No SVHC; RoHS Compliant: Yes; Case/Package: SOIC; Number of Channels: 6; Lead Free: Lead Free; Output Current: 350mA; Number of Outputs: 6; Mount: Surface Mount; Packaging: Rail/Tube; Min Operating Temperature: -40°C; Package Quantity: 25; Series: -; Max Operating Temperature: 150°C; Width: 0.299inch; Length: 0.712inch; Number of Pins: 28; Manufacturer Part Number: IR2136SPBF
footprint FP-PG-DSO-28-IPC_C
footprint FP-PG-DSO-28-IPC_B
footprint FP-PG-DSO-28-IPC_A
pins: 1 VCC (power), 2 ~{HIN1} (in), 3 ~{HIN2} (in), 4 ~{HIN3} (in), 5 ~{LIN1} (in), 6 ~{LIN2} (in), 7 ~{LIN3} (in), 8 ~{FAULT} (oc), 9 ITRIP (in), 10 EN (in), 11 RCIN (in), 12 VSS (power), 13 COM (in), 14 LO3, 15 LO2, 16 LO1, 17 NC, 18 VS3 (power), 19 HO3, 20 VB3 (power), 21 NC, 22 VS2 (power), 23 HO2, 24 VB2 (power), 25 NC, 26 VS1 (power), 27 HO1, 28 VB1 (power)

## CMP-32901-000262-1
designator Q?, comment IRFP260NPBF
MOSFET N-CH 200V 50A TO247AC; Manufacturer: Infineon; Drain to Source Resistance: 40mR; Turn-On Delay Time: 17ns; Gate to Source Voltage (Vgs): 20V; Turn-Off Delay Time: 55ns; Max Power Dissipation: 300W; Element Configuration: Single; Input Capacitance: 4.057nF; Threshold Voltage: 4V; Width: 0.209inch; Max Operating Temperature: 175°C; Number of Pins: 3; Lead Free: Lead Free; Rds On Max: 40mR; Case/Package: TO-247; Continuous Drain Current (ID): 50A; Power Dissipation: 300W; RoHS Compliant: Yes; Min Operating Temperature: -55°C; Drain to Source Voltage (Vdss): 200V; Mount: Through Hole; REACH SVHC: No SVHC; Packaging: Bulk; Drain to Source Breakdown Voltage: 200V; Halogen Free: Not Halogen Free; Height: 0.799inch; Length: 0.625inch; Max Dual Supply Voltage: 200V; Manufacturer Part Number: IRFP260NPBF
footprint FP-PG-TO247-3-MFG
pins: 1 G, 2 D, 3 S

## EL817S1
designator Q?
EL817S1 (B) (TU) – F Optocoupler SMD-4 Cut Tape; Product URL: https://sharvielectronics.com/product/el817s1-b-tu-f-optocoupler-smd-4-cut-tape/; Price per piece: 7.45; Datasheet: https://sharvielectronics.com/wp-content/uploads/2021/09/EL817-Optocoupler.pdf
footprint EL817S1 (Optocoupler)
pins: 1 A "Anode", 2 K "Cathode", 3 E "Emitter", 4 C "Collector"

## ESP32
designator *
footprint esp32
pins: 1 EN, 2 36*, 3 39*, 4 34*, 5 35*, 6 32, 7 33, 8 25, 9 26, 10 27, 11 14, 12 12*, 13, 14 GND, 15 VIN, 16 3V3, 17 GND, 18 *15, 19 *2, 20 4, 21 16, 22 17, 23 *5, 24 18, 25 19, 26 21, 27 *3, 28 *1, 29 22, 30 23

## Heatsink_L
designator HS?
footprint heatsink_l
pins: 1

## heatsink_S
designator HS?
footprint haetsink_s
pins: 1

## LED-0805
designator D?
Price per piece: 2.32; Product URL: https://sharvielectronics.com/product/red-led-0805-smd-package-17-21surc-s530-a3-tr8/; Datasheet: https://drive.google.com/file/d/193qGY45iPx2JlzACJk7ZLn2axHlG04VY/view?usp=sharing
footprint LED0805 (LED 0805 Package)
pins: 1 C, 2 A

## MINI560
designator U?
MINI560 5VDC 5A Step-Down Stabilized Module; Price per piece: 125.33; Product URL: https://sharvielectronics.com/product/mini560-5vdc-5a-step-down-stabilized-module/
footprint MINI560
pins: 1 VIN (power), 2 GND_IN (power), 3 5V (power), 4 GND (power)

## PBUTTON
designator S?, comment Push Button
TS36CA-0.6 – 2Pin SPST SMD Right Angle Push Button Switch; Price per piece: 4.52; Product URL: https://sharvielectronics.com/product/ts36ca-0-6-2pin-spst-smd-right-angle-push-button-switch/; Datasheet: https://drive.google.com/file/d/11nXDBprwehBhuTnyyi6cyPbdFHQP9C3O/view?usp=sharing
footprint PBUTTON
pins: 1, 2

## R0000 0603
designator R?, comment 0R 0603
0 Ohm 1/10 Watt Resistor 1% Tolerance RC0603FR-070RL – 0603 Package; Price per piece: 0.97; Product URL: https://sharvielectronics.com/product/0-ohm-1-10-watt-resistor-1-tolerance-rc0603fr-070rl-0603-package/; Datasheet: https://drive.google.com/file/d/1pkLQT_RQ1i35oFQcGREpZr7Oy3Ppi-ZT/view?usp=sharing
footprint R0603 (0603 Package)
pins: 1, 2

## R0603
designator R?
Price per Piece: *; Product URL: *; Datasheet: *
footprint R0603 (0603 Package)
pins: 1, 2

## R0805
designator R?
Price per piece: *; Product URL: *; Datasheet: *
footprint R0805 (0805 Package)
pins: 1, 2

## R0805-0402
designator R?
Price per piece: *; Product URL: *; Datasheet: *
footprint R08050402 (MOdified 0805)
pins: 1, 2

## RT9080
designator U?
RT9080-33GJ5 – 3.3V 600mA Low-Dropout Linear Regulator-TSOT-23-5 Package; Price per piece: 38.46; Product URL: https://sharvielectronics.com/product/rt9080-33gj5-3-3v-600ma-low-dropout-linear-regulator-tsot-23-5-package/; Datasheet: https://www.richtek.com/assets/product_file/RT9080/DS9080-00.pdf
footprint RT9080
pins: 1 VIN, 2 GND, 3 EN, 4 SNS, 5 VOUT

## SS34
designator D?
SS34 SMA 40V/3A Schottky Diode SMD Package-DO-214AC; Manufacturer: Vishay; Manufacturer Part Number: SS34-E3/57T; Manufacturer: Vishay Semiconductors; Max Repetitive Reverse Voltage: 40V; Max Junction Temp: +150°C; Forward Current: 3A; Peak Reverse Current: 0.5mA; Max Surge Forward Current: 100A; Standoff Height: 0mm; ComponentLink2Description: Datasheet; Device Class L3: Schottky Diodes; Height: 2.62mm; Lead Free: Yes; Package: 95402; Temperature Range High: +150°C; ComponentLink2URL: http://www.vishay.com/docs/88751/ss32.pdf; Temperature: -55°C to +150°C; Footprint Url: http://www.vishay.com/docs/95402/smc.pdf; Automotive: No; Category: Diode; RoHS: TRUE; Device Class L2: Diodes; Mouser Description: Schottky Diodes & Rectifiers 3.0 Amp 40 Volt; Octopart: https://octopart.com/ss34-e3%2F57t-vishay-39552907; Temperature Range Low: -55°C; Device Class L1: Discrete Semiconductors; Digikey Description: DIODE SCHOTTKY 40V 3A DO214AB; Price per piece: 5.75; Product URL: https://sharvielectronics.com/product/ss34-sma-40v-3a-schottky-diode-smd-package-do-214ac/; Datasheet: https://drive.google.com/file/d/1NCTjjzsUDglehHYd-VxKcrmaXziByLRA/view?usp=sharing
footprint DO-214AC (SMA)
pins: 1 C, 2 A

## SS510
designator D?
SS510-E3/52T – 100V 5A High Voltage Schottky Diode – DO-214AA Package; Product URL: https://sharvielectronics.com/product/ss510-e3-52t-100v-5a-high-voltage-schottky-diode-do-214aa-package/; Datasheet: https://drive.google.com/file/d/1iz5AYn44Er0kaCDKeIane-7fZ44xILG8/view?usp=sharing; Price per piece: 12.75
footprint DO-210AA (DO-210AA Package)
pins: 1 C, 2 A

## TP8485
designator U?
TP8485E – RS485 Transceiver Interface IC SOIC-8 Package; Product URL: https://sharvielectronics.com/product/tp8485e-rs485-transceiver-interface-ic-soic-8-package/; Price per piece: 28.94; Datasheet: https://drive.google.com/file/d/1U_aS4Uf2IPB18ZIqPadQc-TMP5dizR4y/view?usp=sharing
footprint TP8485
pins: 1 R, 2 RE, 3 DE, 4 D, 5 GND, 6 A, 7 B, 8 VCC

## WCS1600
designator S?
WCS1600 100A Hall Effect Linear Current Sensor; Price per piece: 280.67; Product URL: https://sharvielectronics.com/product/wcs1600-100a-hall-effect-linear-current-sensor/; Datasheet: https://sharvielectronics.com/wp-content/uploads/2020/02/WCS1600.pdf
footprint WCS1600
pins: 1 VDD (power), 2 GND (power), 3 OUT

## XH2.5-2p
designator *?, comment 10k NTC
footprint XH2.5-2p
pins: 1, 2

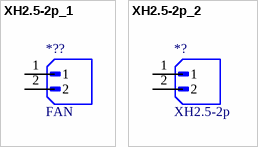
[diagram p2: symbols XH2.5-2p_1 to XH2.5-2p_2]

## XH2.5-2p_1
designator *??, comment FAN
footprint XH2.5-2p
pins: 1, 2

## XH2.5-2p_2
designator *?, comment XH2.5-2p
footprint XH2.5-2p
pins: 1, 2